# Altium schematic symbol library TP.SchLib: 1 symbol
Pins are listed as number, name and electrical type; pins without a type are passive.

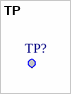
[diagram p0: symbol TP]

## TP
designator TP?  (value not drawn)
footprint TP
pins: 1